# Altium schematic symbol library mdriver2_power_hw.SCHLIB: 23 symbols
Pins are listed as number, name and electrical type; pins without a type are passive.

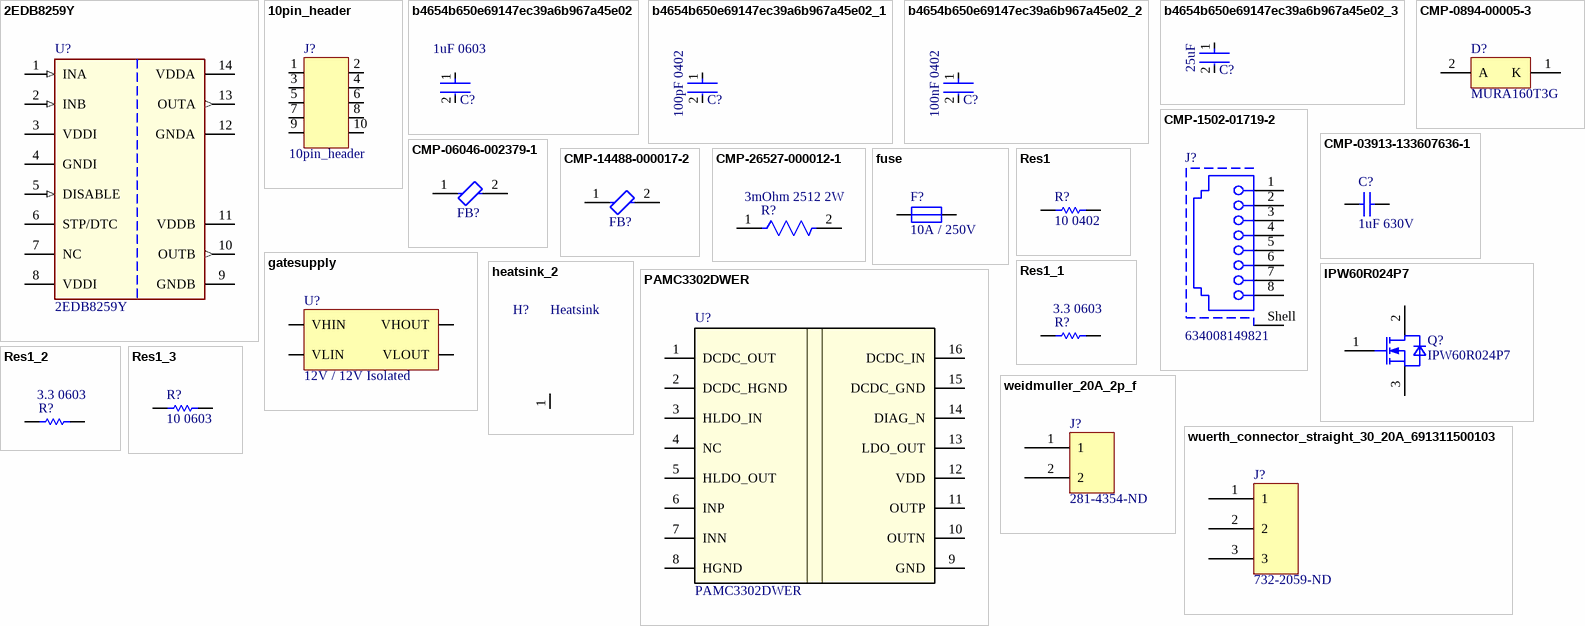
[diagram p0: symbols 2EDB8259Y to wuerth_connector_straight_30_20A_691311500103]

## 2EDB8259Y
designator U?
Dual-Channel Isolated Gate Driver; Manufacturer: Infineon Technologies; Manufacturer Order Number: 2EDB8259Y; PackageReference: PG-DSO-14; Supplier 1: Mouser; Supplier Part Number 1: 726-2EDB8259YXUMA1
footprint SOIC127P600X175-16_14N-1-V (SOIC,1.27mm,pitch;14 pin,3.90mm W X 9.90mm L X 1.75mm H body)
pins: 1 INA (in) "Input signal channel A", 2 INB (in) "Input signal channel B", 3 VDDI (power) "Input-side supply voltage", 4 GNDI (power) "Ground primary-side", 5 DISABLE (in) "Disable input channel A and B", 6 STP/DTC "Shoot-through Protection and Dead-Time Control", 7 NC "No internal connection", 8 VDDI (power) "Input-side supply voltage", 9 GNDB (power) "Ground secondary-side channel B", 10 OUTB (out) "Output secondary-side channel B", 11 VDDB (power) "Supply secondary-side channel B", 12 GNDA (power) "Ground secondary-side channel A", 13 OUTA (out) "Output secondary-side channel A", 14 VDDA (power) "Supply voltage for output channel A"

## 10pin_header
designator J?
Pin header male 2x5 2.54mm; Supplier 1: Digikey; Supplier Part Number 1: 1175-1754-ND
footprint header_10
pins: 1, 2, 3, 4, 5, 6, 7, 8, 9, 10

## b4654b650e69147ec39a6b967a45e02
designator C?, comment 1uF 0603
MLCC 0402 100pF; Voltage: 50V; Tolerance: 5%; Dielectric: C0G; Insulation Resistance: 1GR; Dissipation Factor: 2.5%; Temperature Coefficient: 30ppm/°C; REACH SVHC: No SVHC; Termination: SMD/SMT; Construction: Flat; Contact Plating: Tin; Width: 0.02inch; Series: -; Voltage Rating (DC): 50V; Voltage Rating: 50V; Height: 0.56mm; Max Operating Temperature: 125°C; Length: 1mm; Lead Free: Lead Free; Case/Package: 0402; Min Operating Temperature: -55°C; Depth: 0.5mm; Case Code (Metric): 1005; Thickness: 0.022inch; Radiation Hardening: No; Case Code (Imperial): 0402; Mount: Surface Mount; Capacitance: 1uF; Packaging: Tape and Reel; Package Quantity: 1; RoHS Compliant: Yes
footprint FP-0402-L_1_0_1-W_0_5_0_1-MFG
footprint FP-0402-L_1_0_1-W_0_5_0_1-IPC_A
footprint FP-0402-L_1_0_1-W_0_5_0_1-IPC_C
footprint FP-0402-L_1_0_1-W_0_5_0_1-IPC_B
footprint CAP 0603_1608 (Chip Capacitor, 2-Leads, Body 1.60x0.80mm, IPC Medium Density)
pins: 1, 2

## b4654b650e69147ec39a6b967a45e02_1
designator C?, comment 100pF 0402
MLCC 0402 100pF; Voltage: 50V; Tolerance: 5%; Dielectric: C0G; Insulation Resistance: 1GR; Dissipation Factor: 2.5%; Temperature Coefficient: 30ppm/°C; REACH SVHC: No SVHC; Termination: SMD/SMT; Construction: Flat; Contact Plating: Tin; Width: 0.02inch; Series: -; Voltage Rating (DC): 50V; Voltage Rating: 50V; Height: 0.56mm; Max Operating Temperature: 125°C; Length: 1mm; Lead Free: Lead Free; Case/Package: 0402; Min Operating Temperature: -55°C; Depth: 0.5mm; Case Code (Metric): 1005; Thickness: 0.022inch; Radiation Hardening: No; Case Code (Imperial): 0402; Mount: Surface Mount; Capacitance: 100pF; Packaging: Tape and Reel; Package Quantity: 1; RoHS Compliant: Yes
footprint FP-0402-L_1_0_1-W_0_5_0_1-MFG
footprint FP-0402-L_1_0_1-W_0_5_0_1-IPC_A
footprint FP-0402-L_1_0_1-W_0_5_0_1-IPC_C
footprint FP-0402-L_1_0_1-W_0_5_0_1-IPC_B
pins: 1, 2

## b4654b650e69147ec39a6b967a45e02_2
designator C?, comment 100nF 0402
MLCC 0402 100pF; Voltage: 50V; Tolerance: 5%; Dielectric: C0G; Insulation Resistance: 1GR; Dissipation Factor: 2.5%; Temperature Coefficient: 30ppm/°C; REACH SVHC: No SVHC; Termination: SMD/SMT; Construction: Flat; Contact Plating: Tin; Width: 0.02inch; Series: -; Voltage Rating (DC): 50V; Voltage Rating: 50V; Height: 0.56mm; Max Operating Temperature: 125°C; Length: 1mm; Lead Free: Lead Free; Case/Package: 0402; Min Operating Temperature: -55°C; Depth: 0.5mm; Case Code (Metric): 1005; Thickness: 0.022inch; Radiation Hardening: No; Case Code (Imperial): 0402; Mount: Surface Mount; Capacitance: 100pF; Packaging: Tape and Reel; Package Quantity: 1; RoHS Compliant: Yes
footprint FP-0402-L_1_0_1-W_0_5_0_1-MFG
footprint FP-0402-L_1_0_1-W_0_5_0_1-IPC_A
footprint FP-0402-L_1_0_1-W_0_5_0_1-IPC_C
footprint FP-0402-L_1_0_1-W_0_5_0_1-IPC_B
pins: 1, 2

## b4654b650e69147ec39a6b967a45e02_3
designator C?, comment 25uF
MLCC 0402 100pF; Voltage: 50V; Tolerance: 5%; Dielectric: C0G; Insulation Resistance: 1GR; Dissipation Factor: 2.5%; Temperature Coefficient: 30ppm/°C; REACH SVHC: No SVHC; Termination: SMD/SMT; Construction: Flat; Contact Plating: Tin; Width: 0.02inch; Series: -; Voltage Rating (DC): 50V; Voltage Rating: 50V; Height: 0.56mm; Max Operating Temperature: 125°C; Length: 1mm; Lead Free: Lead Free; Case/Package: 0402; Min Operating Temperature: -55°C; Depth: 0.5mm; Case Code (Metric): 1005; Thickness: 0.022inch; Radiation Hardening: No; Case Code (Imperial): 0402; Mount: Surface Mount; Capacitance: 100pF; Packaging: Tape and Reel; Package Quantity: 1; RoHS Compliant: Yes
footprint FP-0402-L_1_0_1-W_0_5_0_1-IPC_A
footprint FP-0402-L_1_0_1-W_0_5_0_1-IPC_C
footprint FP-0402-L_1_0_1-W_0_5_0_1-IPC_B
footprint film_cap_50uF_450V
pins: 1, 2

## CMP-0894-00005-3
designator D?, comment MURA160T3G
Surface Mount Ultrafast Power Rectifier, 2-Pin SMA, Pb-Free, Tape and Reel; Manufacturer: On Semiconductor; IFSM Max (A): 30; VRRM Max (V): 600; Type: Ultrafast; ComponentLink1URL: http://www.onsemi.com/; PackageDescription: 2-Pin Small Molded Package, J-Bend Lead, Body 2.605 x 4.315 mm; ComponentLink3Description: Package Specification; ComponentLink2Description: Datasheet; PartNumber: MURA160T3G; RoHS: TRUE; ComponentLink2URL: http://www.onsemi.cn/pub_link/Collateral/MURA160T3-D.PDF; ComponentLink1Description: Manufacturer URL; Packing: Tape and Reel; PackageReference: SMA-2-403D-02; ComponentLink3URL: http://www.onsemi.com/pub_link/Collateral/403D-02.PDF; PackageVersion: Rev. G, 07/2012; Mounting Technology: Surface Mount; DatasheetVersion: Rev. 6
footprint ONSC-SMA-2-403D-02_V (Molded, 2-Leads, Body 4.57x2.92mm)
pins: 1 K, 2 A

## CMP-1502-01719-2
designator J?, comment 634008149821
NexarPartId: 52676018; Current Rating: 1.5A; Contact Resistance: 20mΩ; Operating Supply Voltage: 120V; Insulation Resistance: 500MΩ; Number of Ports: 1; Shielding: Shielded; Direction: Up; Min Operating Temperature: -40°C; Housing Color: Black; Max Operating Temperature: 85°C; Contact Plating: Gold; Number of Rows: 1; Termination: Solder; Mount: Surface Mount; RoHS: Compliant; Housing Material: Nylon
footprint 634008149821 (Modular Jack Horizontal Shielded SMT 8P8C Tab Up)
pins: 1, 2, 3, 4, 5, 6, 7, 8, Shell

## CMP-03913-133607636-1
designator C?, comment 1uF 630V
885342214001 Cap, 1Uf, 630V, Mlcc, 2220 Rohs Compliant: Yes; NexarPartId: 133607636; Capacitance: 1µF; Insulation Resistance: 100MΩ; RoHS: Compliant; Length: 5.7mm; Height: 5mm; Min Operating Temperature: -55°C; Width: 2.8mm; Voltage Rating: 630V; Max Operating Temperature: 125°C
footprint WCAP-CSMH_2220_L5.7W5H2.8 (Cap, 1Uf, 630V, Mlcc, 2220 Rohs Compliant: Yes)
pins: 1, 2

## CMP-06046-002379-1
designator FB?, comment BLM15HD182SH1D  (value not drawn)
Chip Ferrite Bead, 0402, 1800Ω @ 100MHz, 2.2Ω, 25%, 200mA; Impedance: 1.8kR; Number of Lines: 1; DC Resistance (DCR): 2.2R; Max Operating Temperature: 125°C; Packaging: Tape and Reel; Length: 0.039inch; Max Current Rating: 200mA; Mount: Surface Mount; Package Quantity: 10000; Ratings: AEC-Q200; Height: 0.022inch; Number of Circuits: 1; Case/Package: 0402; Min Operating Temperature: -55°C; Width: 0.02inch; RoHS Compliant: Yes
footprint FP-BLM15-0_05-IPC_A
footprint FP-BLM15-0_05-MFG
footprint FP-BLM15-0_05-IPC_C
footprint FP-BLM15-0_05-IPC_B
pins: 1, 2

## CMP-14488-000017-2
designator FB?, comment BKH1005LM182-T  (value not drawn)
None; Max Current Rating: 200mA; Number of Lines: 1; Impedance: 1.8kR; Tolerance: 25%; Test Frequency: 100MHz; DC Resistance (DCR): 2R; Case Code (Imperial): 0402; Mount: Surface Mount; Max DC Current: 200mA; Length: 0.039inch; Case Code (Metric): 1005; Height: 0.022inch; Max Operating Temperature: 125°C; Packaging: Tape and Reel; Min Operating Temperature: -55°C; Package Quantity: 1; Lead Free: Lead Free; Series: BK; Depth: 0.55mm; Termination: SMD/SMT; Halogen Free: Halogen Free; RoHS Compliant: Yes; Width: 0.02inch; Case/Package: 0402
footprint FP-BKH1005-MFG
footprint FP-BKH1005-IPC_A
footprint FP-BKH1005-IPC_C
footprint FP-BKH1005-IPC_B
pins: 1, 2

## CMP-26527-000012-1
designator R?, comment 3mOhm 2512 2W
RES 0.003 OHM 1% 2W 2512; 3DS Part Number: 110-00007; Manufacturer Part Number: CSNL2512FT3L00; Manufacturer: Stackpole; Description: Res Metal Foil 2512 0.003 Ohm 1% 2W 50ppm/C Molded SMD SMD Plastic T/R; Value: 3mΩ; Temperature Coefficient: 50ppm/°C; Ipc Land Pattern Name: RESC635318X55; ComponentLink2Description: Datasheet; Octopart: https://octopart.com/csnl2512ft3l00-stackpole+electronics-19206420; ComponentLink2URL: https://www.seielect.com/Catalog/SEI-csnl.pdf; Device Class L2: Resistors; RoHS: TRUE; Temperature Range High: +170°C; Footprint Url: http://www.seielect.com/catalog/SEI-Std_Solder_Land_Patterns.pdf; Device Class L3: Chip SMD Resistors; Digikey Description: RES 0.003 OHM 1% 2W 2512; Temperature: -55°C to +170°C; Device Class L1: Passive Components; Lead Free: Yes; Category: Res; Series: CSNL; Resistance: 3mΩ; Temperature Range Low: -55°C; Composition: Metal Foil; Power Rating: 2W; Height: 0.75mm; Package: CSNL2512; Automotive: No; Tolerance: 1%
footprint FP-CSNL2512-MFG
footprint FP-CSNL2512-IPC_C
footprint FP-CSNL2512-IPC_B
footprint FP-CSNL2512-IPC_A
pins: 1, 2

## fuse
designator F?, comment 10A / 250V
Fuse Holder 5mm/20mm; Supplier 1: Rs; Supplier Part Number 1: 2693785
footprint fuseholder_5mm_20mm
pins: 1, 2

## gatesupply
designator U?, comment 12V / 12V Isolated
Supplier 1: Digikey; Supplier Part Number 1: 811-3184-1-ND
footprint gatesupply
pins: 1 VLIN, 3 VHIN, 7 VLOUT, 8 VHOUT

## heatsink_2
designator H?, comment Heatsink
HEATSINK TO247 W/CLIP 75MM; Supplier 1: Mouser; Supplier Part Number 1: 567-694-75
footprint HEATSINK2
pins: 1

## IPW60R024P7
designator Q?
Smart Low Side Power Switch; Manufacturer: Infineon Technologies; Manufacturer Order Number: IPW60R024P7; PackageReference: PG-TO247-3-41; Supplier 1: Mouser; Supplier Part Number 1: 726-IPW60R024P7XKSA1
footprint INF-PG-TO247-3 (TO-247-3,5.44mm pitch;3 pin,15.915mm L X 5.02mm W X 25.57mm H body)
pins: 1 GATE, 2 DRAIN, 3 SOURCE

## PAMC3302DWER
designator U?
Â±50-mV input, precision reinforced isolated amplifier with integrated DC/DC converter 16-SOIC -40 to 125; Manufacturer_Name: Texas Instruments; TYPE: TYPE; RefDes: RefDes; Copyright: Copyright (C) 2025 Ultra Librarian. All rights reserved.; Manufacturer_Part_Number: PAMC3302DWER; Datasheet: https://www.ti.com/lit/gpn/amc3302
footprint DWE0016A-IPC_A
pins: 1 DCDC_OUT, 2 DCDC_HGND (power), 3 HLDO_IN (power), 4 NC, 5 HLDO_OUT, 6 INP (hiz), 7 INN (hiz), 8 HGND (power), 9 GND (power), 10 OUTN, 11 OUTP, 12 VDD (power), 13 LDO_OUT, 14 DIAG_N (oc), 15 DCDC_GND (power), 16 DCDC_IN (power)

## Res1
designator R?, comment 10 0402
Resistor 10Ohm 0603; Value: 10; Published: 8-Jun-2000; LatestRevisionDate: 17-Jul-2002; LatestRevisionNote: Re-released for DXP Platform.; PackageReference: AXIAL-0.3; Publisher: Altium Limited; PackageDescription: Axial Device, Thru-Hole; 2 Leads; 0.3 in Pin Spacing
simulation model RESISTOR (Resistor)
signal-integrity model Res
footprint RES 0603_1608 (Chip Resistor, 2-Leads, Body 1.60x0.80mm, IPC Medium Density)
pins: 1, 2

## Res1_1
designator R?, comment 3.3 0603
Resistor 3.3Ohm 0603; Value: 3.3; Published: 8-Jun-2000; LatestRevisionDate: 17-Jul-2002; LatestRevisionNote: Re-released for DXP Platform.; PackageReference: AXIAL-0.3; Publisher: Altium Limited; PackageDescription: Axial Device, Thru-Hole; 2 Leads; 0.3 in Pin Spacing
simulation model RESISTOR (Resistor)
signal-integrity model Res
footprint RES 0603_1608 (Chip Resistor, 2-Leads, Body 1.60x0.80mm, IPC Medium Density)
pins: 1, 2

## Res1_2
designator R?, comment 3.3 0603
Resistor 3.3Ohm 0603; Value: 1K; Published: 8-Jun-2000; LatestRevisionDate: 17-Jul-2002; LatestRevisionNote: Re-released for DXP Platform.; PackageReference: AXIAL-0.3; Publisher: Altium Limited; PackageDescription: Axial Device, Thru-Hole; 2 Leads; 0.3 in Pin Spacing
simulation model RESISTOR (Resistor)
signal-integrity model Res
footprint RES 0603_1608 (Chip Resistor, 2-Leads, Body 1.60x0.80mm, IPC Medium Density)
pins: 1, 2

## Res1_3
designator R?, comment 10 0603
Resistor 10Ohm 0603; Value: 10; Published: 8-Jun-2000; LatestRevisionDate: 17-Jul-2002; LatestRevisionNote: Re-released for DXP Platform.; PackageReference: AXIAL-0.3; Publisher: Altium Limited; PackageDescription: Axial Device, Thru-Hole; 2 Leads; 0.3 in Pin Spacing
simulation model RESISTOR (Resistor)
signal-integrity model Res
footprint RES 0603_1608 (Chip Resistor, 2-Leads, Body 1.60x0.80mm, IPC Medium Density)
pins: 1, 2

## weidmuller_20A_2p_f
designator J?  Supplier Part Number 1: 281-4354-ND  (hidden comment: weidmuller_20A_2p_f)
Connector Block 19A Male Receptor; Supplier 1: Digi-Key
footprint weidmuller_19A_2p_m
pins: 1, 2

## wuerth_connector_straight_30_20A_691311500103
designator J?, comment Supplier Part Number 1: 732-2059-ND  (hidden comment: 20A straight)
Supplier 1: Digi-Key
footprint 691311500103
pins: 1, 2, 3